# EAGLE library part LT8636 (library Analog Devices)
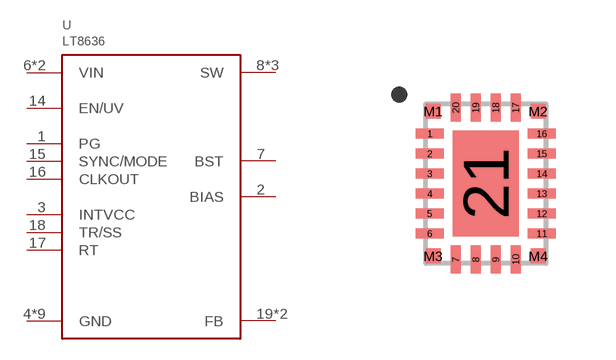
[diagram p25: symbol with the pads of QFN20_ASYM_3X4_CORNER; footprint QFN20_ASYM_3X4_CORNER]

Designator prefix U

## LT8636  [QFN20_ASYM_3X4_CORNER]
1  PG
2  BIAS
3  INTVCC
4  GND
5  GND
6  VIN
7  BST
8  SW
9  SW
10  SW
11  VIN
12  GND
13  GND
14  EN/UV
15  SYNC/MODE
16  CLKOUT
17  RT
18  TR/SS
19  FB
20  FB
21  GND
M1  GND
M2  GND
M3  GND
M4  GND

## Footprint QFN20_ASYM_3X4_CORNER (pad centres in mm)
smd 0.7 x 0.25: 1 -1.4,1.25; 2 -1.4,0.75; 3 -1.4,0.25; 4 -1.4,-0.25; 5 -1.4,-0.75; 6 -1.4,-1.25; 11 1.4,-1.25; 12 1.4,-0.75; 13 1.4,-0.25; 14 1.4,0.25; 15 1.4,0.75; 16 1.4,1.25
smd 0.25 x 0.7: 7 -0.75,-1.9; 8 -0.25,-1.9; 9 0.25,-1.9; 10 0.75,-1.9; 17 0.75,1.9; 18 0.25,1.9; 19 -0.25,1.9; 20 -0.75,1.9
smd 1.65 x 2.65: 21 0,0
smd 0.375 x 0.375: M1 -1.312,1.812; M2 1.312,1.812; M3 -1.312,-1.812; M4 1.312,-1.812